# Altium footprint library UmbilicalBoardV2.PcbLib: 20 footprints (part 1 of 2)
Each footprint in its own frame and in the unit in brackets; x right, y up, seen from the top. Pads: shape width x height; smd on the part's side, far side on the other; paste and mask are expansions set on the pad; w line width, h text height; cw(c..) or ccw(c..) is an arc to the next point about the centre after c.
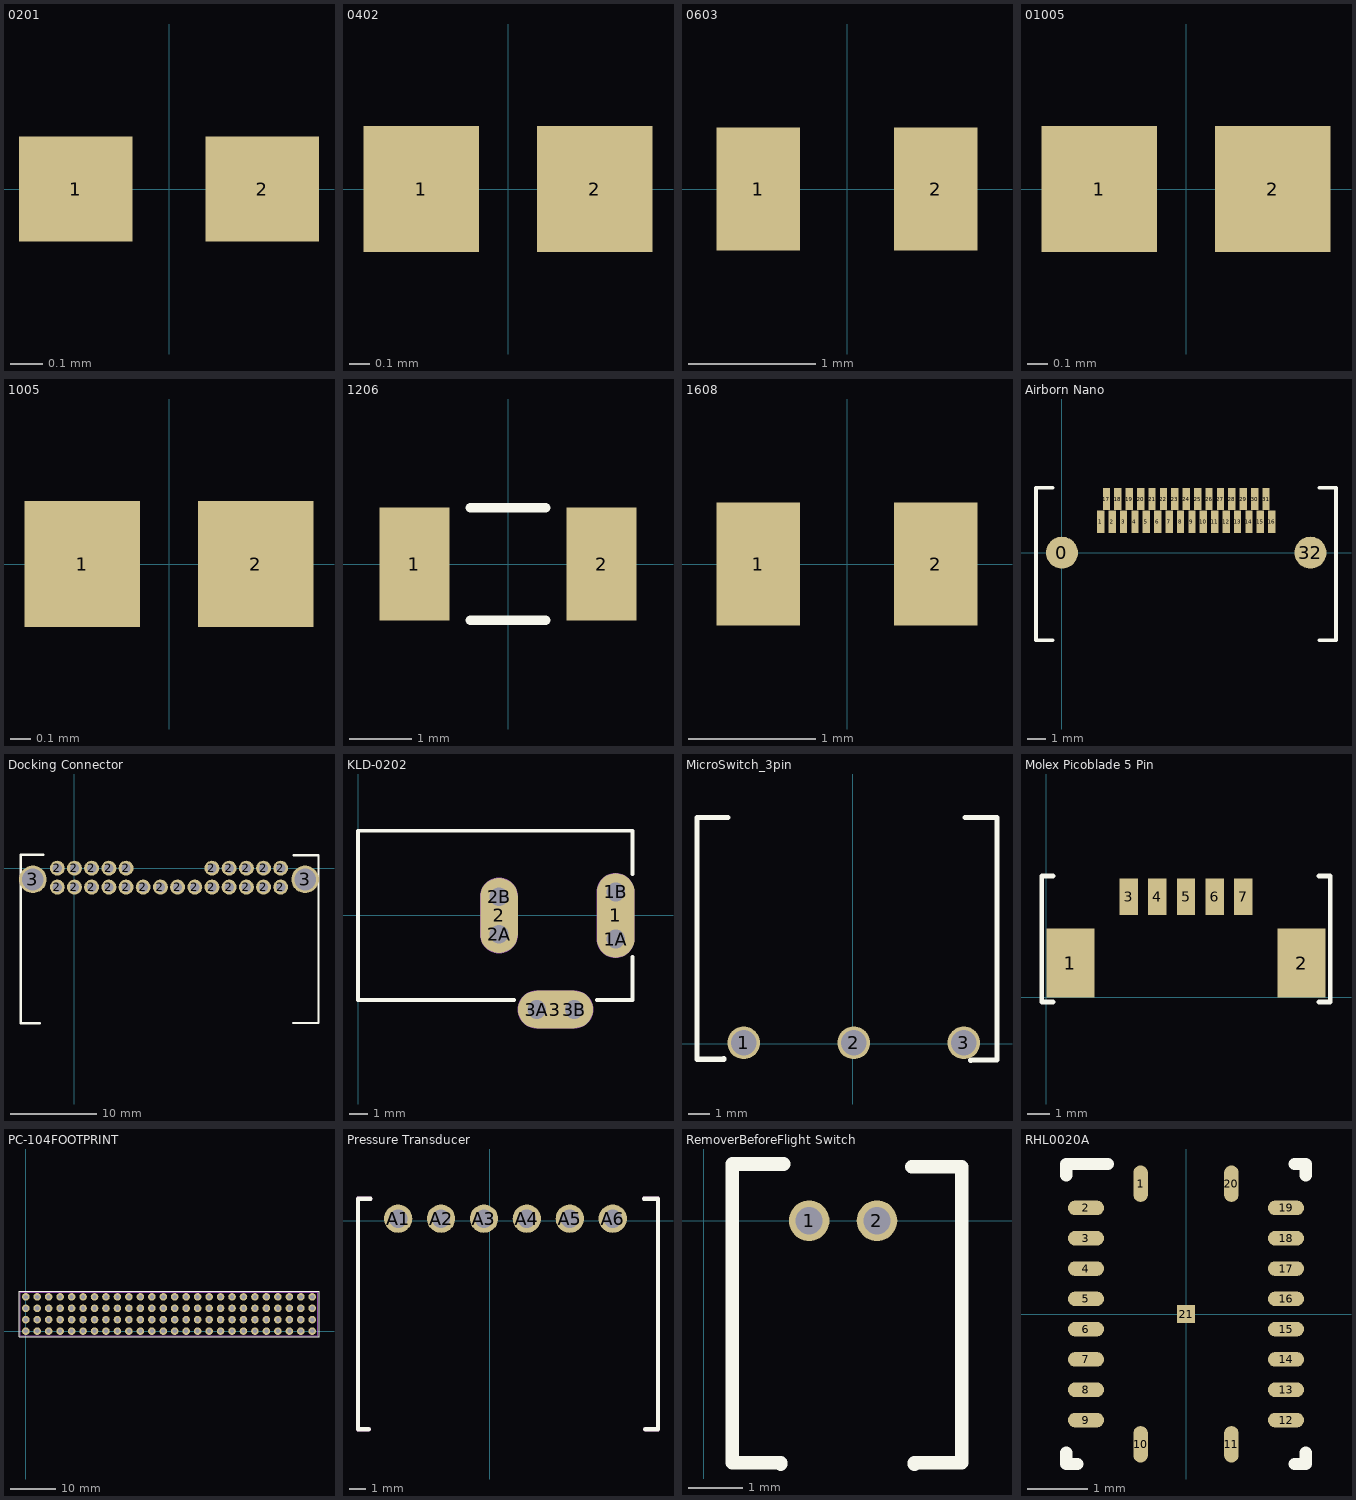
[diagram p0: the footprints below, top view; thin cyan lines are the x and y axes]

## 0201 [mil]
pads (2):
  rect 14x13 smd: 1(-11.5,0) 2(11.5,0)

## 0402 [mil]
pads (2):
  rect 22x24 smd: 1(-16.5,0) 2(16.5,0)

## 0603 [mil]
pads (2):
  rect 26x38 smd: 1(-27.5,0) 2(27.5,0)

## 01005 [mil]
pads (2):
  rect 22x24 smd: 1(-16.5,0) 2(16.5,0)

## 1005 [mil]
pads (2):
  rect 22x24 smd: 1(-16.5,0) 2(16.5,0)

## 1206 [mil]
pads (2):
  rect 44x71 smd: 1(-59,0) 2(59,0)
Top Overlay:
  lines w6: -23.9,-35.5 23.9,-35.5 ; -23.9,35.5 23.9,35.5

## 1608 [mil]
pads (2):
  rect 26x38 smd: 1(-27.5,0) 2(27.5,0)

## Airborn Nano [mil]
pads (33):
  round 70 smd: 0(0,0) 32(545,0)
  rect 16x49 smd: 1(85,67.5) 2(110,67.5) 3(135,67.5) 4(160,67.5) 5(185,67.5) 6(210,67.5) 7(235,67.5) 8(260,67.5) 9(285,67.5) 10(310,67.5) 11(335,67.5) 12(360,67.5) 13(385,67.5) 14(410,67.5) 15(435,67.5) 16(460,67.5) 17(97.5,117.5) 18(122.5,117.5) 19(147.5,117.5) 20(172.5,117.5) 21(197.5,117.5) 22(222.5,117.5) 23(247.5,117.5) 24(272.5,117.5) 25(297.5,117.5) 26(322.5,117.5) 27(347.5,117.5) 28(372.5,117.5) 29(397.5,117.5) 30(422.5,117.5) 31(447.5,117.5)
Top Overlay:
  lines w7.87: -20,-192 -57,-192 -57,142 -20,142 ; 564,-192 601,-192 601,142 564,142
3D body: height 137.5, standoff -2.5, extent -53,-188 597,138

## Docking Connector [mm]
pads (26):
  round 1.74 hole 1.08 mask+0.076: 2(-1.975,-2.175) 2(-1.975,0.025) 2(0.025,-2.175) 2(0.025,0.025) 2(2.025,-2.175) 2(2.025,0.025) 2(4.025,-2.175) 2(4.025,0.025) 2(6.025,-2.175) 2(6.025,0.025) 2(8.025,-2.175) 2(10.025,-2.175) 2(12.025,-2.175) 2(14.025,-2.175) 2(16.025,-2.175) 2(16.025,0.025) 2(18.025,-2.175) 2(18.025,0.025) 2(20.025,-2.175) 2(20.025,0.025) 2(22.025,-2.175) 2(22.025,0.025) 2(24.025,-2.175) 2(24.025,0.025)
  round 3.21 hole 2.55 mask+0.076: 3(-4.825,-1.275) 3(26.875,-1.275)
Top Overlay:
  lines w0.254: -4,-18.025 -6.217,-18.025 -6.217,1.6 -3.575,1.6 ; 25.475,-18 28.413,-18 28.413,1.525 25.55,1.525
3D body "348260240.stp": height 4.84, standoff -11.05, extent -6.217,-18 28.413,1.5

## KLD-0202 [mm]
pads (9):
  oval 2x4.5 all layers, no hole: 1(13.7,0)
  round 1.5 hole 1: 1A(13.7,-1.25) 1B(13.7,1.25) 2A(7.5,-1) 2B(7.5,1) 3A(9.5,-5) 3B(11.5,-5)
  oval 2x4 all layers, no hole: 2(7.5,0)
  oval 4x2 all layers, no hole: 3(10.5,-5)
Top Overlay:
  lines w0.2: 8.3,-4.5 0,-4.5 0,4.5 14.6,4.5 14.6,2.2 ; 12.7,-4.5 14.6,-4.5 14.6,-2.2
Mechanical 1:
  lines w1: 7.5,-1 7.5,1 ; 9.5,-5 11.5,-5 ; 13.7,-1.25 13.7,1.25
  text "Alert PCB fab to slot details" at 0.286,6.066 h0.3
  text "Assign keep-out area to slot" at 0.286,6.566 h0.3
  text "Mech 1 - Slot cut-out" at 0.286,5.566 h0.3
  text "Mech 2 - Clearance, move to internal plane if present" at 0.286,5.066 h0.3
Mechanical 2:
  lines w2.016: 7.5,-1 7.5,1 ; 9.5,-5 11.5,-5 ; 13.7,-1.25 13.7,1.25

## MicroSwitch_3pin [mm]
pads (3):
  round 1.524 hole 1.2: 1(-5.08,0.05) 2(0.05,0.05) 3(5.18,0.05)
Top Overlay:
  lines w0.254: -6,-0.7 -6,-0.725 -7.255,-0.725 -7.255,10.55 -5.825,10.55 ; 5.25,10.55 6.725,10.55 6.725,-0.75 5.5,-0.75 5.5,-0.775
3D body "D2FS_FL_N_A1.step": height 0, standoff -8.9, extent -7.255,-0.75 6.725,10.55

## Molex Picoblade 5 Pin [mm]
pads (7):
  rect 2.1x3 smd: 1(1.05,1.5) 2(11.15,1.5)
  rect 0.8x1.6 smd: 3(3.6,4.4) 4(4.85,4.4) 5(6.1,4.4) 6(7.35,4.4) 7(8.6,4.4)
Top Overlay:
  lines w0.2: 0.3,-0.2 -0.2,-0.2 -0.2,5.3 0.3,5.3 ; 11.9,-0.2 12.4,-0.2 12.4,5.3 11.9,5.3
3D body: height 3.4, standoff 0, extent 0.4,0 11.8,5.2

## PC-104FOOTPRINT [mil]
pads (104):
  round 65.98 hole 35.98 mask+2.99: H1_1(0,0) H1_2(0,100) H1_3(100,0) H1_4(100,100) H1_5(200,0) H1_6(200,100) H1_7(300,0) H1_8(300,100) H1_9(400,0) H1_10(400,100) H1_11(500,0) H1_12(500,100) H1_13(600,0) H1_14(600,100) H1_15(700,0) H1_16(700,100) H1_17(800,0) H1_18(800,100) H1_19(900,0) H1_20(900,100) H1_21(1000,0) H1_22(1000,100) H1_23(1100,0) H1_24(1100,100) H1_25(1200,0) H1_26(1200,100) H1_27(1300,0) H1_28(1300,100) H1_29(1400,0) H1_30(1400,100) H1_31(1500,0) H1_32(1500,100) H1_33(1600,0) H1_34(1600,100) H1_35(1700,0) H1_36(1700,100) H1_37(1800,0) H1_38(1800,100) H1_39(1900,0) H1_40(1900,100) H1_41(2000,0) H1_42(2000,100) H1_43(2100,0) H1_44(2100,100) H1_45(2200,0) H1_46(2200,100) H1_47(2300,0) H1_48(2300,100) H1_49(2400,0) H1_50(2400,100) H1_51(2500,0) H1_52(2500,100) H2_1(0,200) H2_2(0,300) H2_3(100,200) H2_4(100,300) H2_5(200,200) H2_6(200,300) H2_7(300,200) H2_8(300,300) H2_9(400,200) H2_10(400,300) H2_11(500,200) H2_12(500,300) H2_13(600,200) H2_14(600,300) H2_15(700,200) H2_16(700,300) H2_17(800,200) H2_18(800,300) H2_19(900,200) H2_20(900,300) H2_21(1000,200) H2_22(1000,300) H2_23(1100,200) H2_24(1100,300) H2_25(1200,200) H2_26(1200,300) H2_27(1300,200) H2_28(1300,300) H2_29(1400,200) H2_30(1400,300) H2_31(1500,200) H2_32(1500,300) H2_33(1600,200) H2_34(1600,300) H2_35(1700,200) H2_36(1700,300) H2_37(1800,200) H2_38(1800,300) H2_39(1900,200) H2_40(1900,300) H2_41(2000,200) H2_42(2000,300) H2_43(2100,200) H2_44(2100,300) H2_45(2200,200) H2_46(2200,300) H2_47(2300,200) H2_48(2300,300) H2_49(2400,200) H2_50(2400,300) H2_51(2500,200) H2_52(2500,300)
Top Layer:
  text "H1" at -275.59,39.37 h60
  text "H2" at -275.59,196.85 h60
  text "1" at -100,0 h60
  text "2" at -100,100 h60
  text "1" at -100,200 h60
  text "2" at -100,300 h60
  text "51" at 2586.61,-31.5 h60
  text "52" at 2586.61,66.93 h60
  text "51" at 2582.68,165.35 h60
  text "52" at 2582.68,263.78 h60
Top Overlay:
  lines w10: -59.06,-46.85 2559.06,-46.85 2559.06,346.85 -59.06,346.85 -59.06,-46.85
Mechanical 1:
  lines w10: -47.99,-41.18 2547.24,-41.18 2547.24,340 -47.99,340 -47.99,-41.18
  text "J1" at 1551.45,153.3 h30

## Pressure Transducer [mm]
pads (6):
  round 1.676 hole 1.09 mask+0.076: A1(-5.43,0.125) A2(-2.89,0.125) A3(-0.35,0.125) A4(2.19,0.125) A5(4.73,0.125) A6(7.27,0.125)
Top Overlay keep-out:
  lines w0.254: -7.158,-12.342 -7.802,-12.342 -7.802,1.311 -7.059,1.311 ; 9.12,1.295 9.945,1.295 9.945,-12.325 9.186,-12.325
3D body: height 4.06, standoff -6.22, extent -7.835,-12.318 9.945,1.271

## RemoverBeforeFlight Switch [mm]
pads (2):
  round 0.75 hole 0.5: 1(1.95,0) 2(3.205,0)
Top Overlay:
  lines w0.254: 1.425,-4.5 1.425,-4.475 0.525,-4.475 0.525,1.05 1.475,1.05 ; 3.85,1 4.775,1 4.775,-4.475 3.9,-4.475 3.9,-4.5
3D body "530480210.stp": height 4.05, standoff -1.75, extent 0.525,-4.475 4.775,1.025

## RHL0020A [mm]
pads (21):
  oval 0.24x0.6 smd: 1(-0.75,2.15) 10(-0.75,-2.15) 11(0.75,-2.15) 20(0.75,2.15)
  oval 0.6x0.24 smd: 2(-1.65,1.75) 3(-1.65,1.25) 4(-1.65,0.75) 5(-1.65,0.25) 6(-1.65,-0.25) 7(-1.65,-0.75) 8(-1.65,-1.25) 9(-1.65,-1.75) 12(1.65,-1.75) 13(1.65,-1.25) 14(1.65,-0.75) 15(1.65,-0.25) 16(1.65,0.25) 17(1.65,0.75) 18(1.65,1.25) 19(1.65,1.75)
  rect 0.3x0.3 smd: 21(0,0)
Top Overlay:
  lines w0.2: -1.975,-2.29 -1.975,-2.475 -1.79,-2.475 ; -1.975,2.29 -1.975,2.475 -1.29,2.475 ; 1.79,-2.475 1.975,-2.475 1.975,-2.29 ; 1.79,2.475 1.975,2.475 1.975,2.29